# EAGLE library part TRANSITION_FUNCTION (library TM by Logic Circuit)
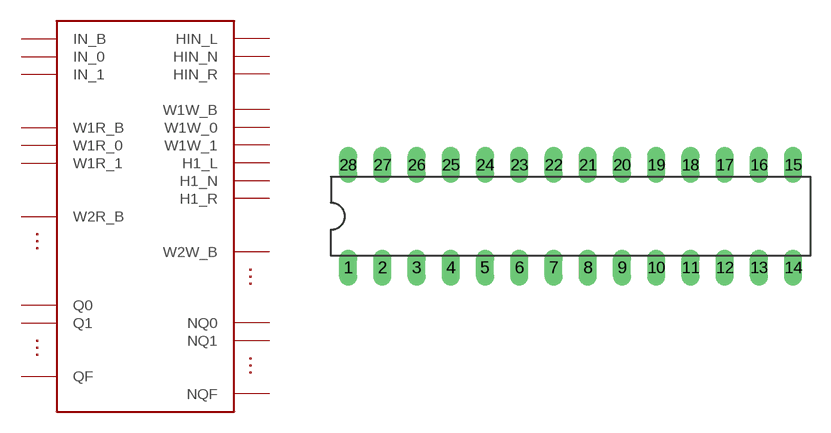
[diagram p0: symbol with the pads of TRANSITION_FUNCTION; footprint TRANSITION_FUNCTION]

Designator prefix -

## TRANSITION_FUNCTION  [TRANSITION_FUNCTION]
1  IN_B  in
2  IN_0  in
3  IN_1
4  W1R_0
5  W1R_1
6  W1R_B
7  W2R_B
8  Q0
9  Q1
10  QF
15  W2W_B
17  W1W_B
18  W1W_1
19  W1W_0
20  H1_R
21  H1_N
22  H1_L
23  NQF
24  NQ1
25  NQ0
26  HIN_R
27  HIN_N
28  HIN_L

## Footprint TRANSITION_FUNCTION (pad centres in mm)
Dual In Line Package Small
drill 0.813 long: 1 -16.51,-3.81; 2 -13.97,-3.81; 3 -11.43,-3.81; 4 -8.89,-3.81; 5 -6.35,-3.81; 6 -3.81,-3.81; 7 -1.27,-3.81; 8 1.27,-3.81; 9 3.81,-3.81; 10 6.35,-3.81; 11 8.89,-3.81; 12 11.43,-3.81; 13 13.97,-3.81; 14 16.51,-3.81; 15 16.51,3.81; 16 13.97,3.81; 17 11.43,3.81; 18 8.89,3.81; 19 6.35,3.81; 20 3.81,3.81; 21 1.27,3.81; 22 -1.27,3.81; 23 -3.81,3.81; 24 -6.35,3.81; 25 -8.89,3.81; 26 -11.43,3.81; 27 -13.97,3.81; 28 -16.51,3.81